# Altium schematic symbol library DC_AC_Inverter.SchLib: 39 symbols (part 2 of 4)
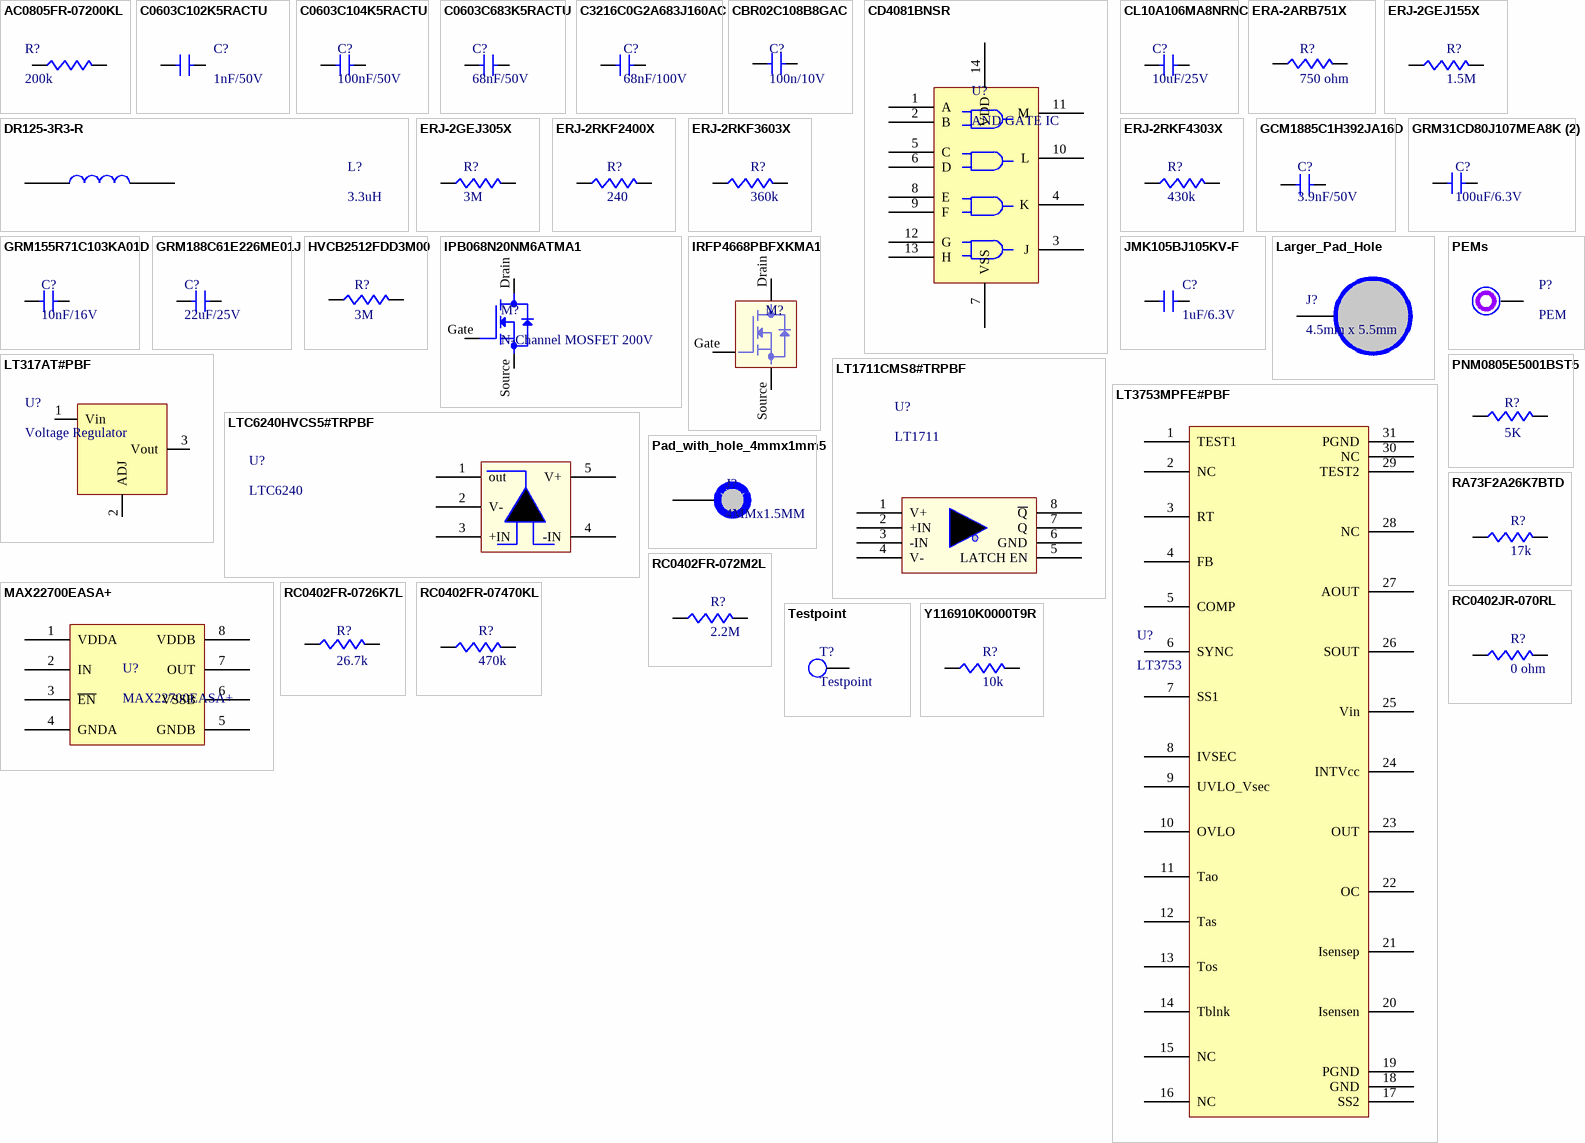
[diagram p1: symbols AC0805FR-07200KL to Y116910K0000T9R]

## CL10A106MA8NRNC
designator C?, comment 10uF/25V
25V 10uF X5R ±20% 0603 Multilayer Ceramic Capacitors MLCC - SMD/SMT ROHS; Manufacturer: Samsung Electro-Mechanics; Manufacturer Part Number: CL10A106MA8NRNC; Value: 10µF; Supplier: DigiKey; Supplier Part Number: 1276-1869-1-ND; RoHS: Compliant; Category: Ceramic Capacitors; Stock: 819895; Pricing: 1=0.09, 10=0.045 (USD); Case/Package: 0603; Case Code (Imperial): 0603; Case Code (Metric): 1608; China RoHS: Compliant; Contact Plating: Tin; Country of Origin: Mainland China, Philippines, South Korea; Dielectric: X5R; Dielectric Material: Ceramic; Export Control Classification Number (ECCN) Code: EAR99; Height: 800µm; Harmonized Tariff Schedule (HTS) Code: 8532.24.00.20; Introduction Date: 2013-01-16; Lead Free: Lead Free; Length: 1.6mm; Lifecycle Status: Production; Material: Ceramic; Max Operating Temperature: 85°C; Min Operating Temperature: -55°C; Mounting Technology: Surface Mount; Number of Terminals: 2; Packaging: Tape & Reel (TR); REACH SVHC: Yes; Schedule B: 8532240020, 8532240020|8532240020|8532240020|8532240020|8532240020|8532240020|8532240020|8532240020|8532240020|8532240020|8532240020, 8532240020|8532240020|8532240020|8532240020|8532240020|8532240020|8532240020|8532240020|8532240020|8532240020|8532240020|8532240020, 8532240020|8532240020|8532240020|8532240020|8532240020|8532240020|8532240020|8532240020|8532240020|8532240020|8532240020|8532240020|8532240020; Termination: Wraparound; Thickness: 889µm; Tolerance: 20%; Voltage Rating: 25V; Voltage Rating (DC): 25V; Width: 800µm; ComponentLink1URL: https://datasheet.octopart.com:443/CL10A106MA8NRNC-Samsung-Electro-Mechanics-datasheet-182019172.pdf?src-supplier=IHS; ComponentLink1Description: https://datasheet.octopart.com:443/CL10A106MA8NRNC-Samsung-Electro-Mechanics-datasheet-182019172.pdf?src-supplier=IHS; ComponentLink2URL: https://datasheet.octopart.com:443/CL10A106MA8NRNC-Samsung-Electro-Mechanics-datasheet-137745063.pdf?src-supplier=Future+Electronics; ComponentLink2Description: https://datasheet.octopart.com:443/CL10A106MA8NRNC-Samsung-Electro-Mechanics-datasheet-137745063.pdf?src-supplier=Future+Electronics; ComponentLink3URL: https://datasheet.octopart.com:443/CL10A106MA8NRNC-Samsung-Electro-Mechanics-datasheet-136031756.pdf?src-supplier=Future+Electronics; ComponentLink3Description: https://datasheet.octopart.com:443/CL10A106MA8NRNC-Samsung-Electro-Mechanics-datasheet-136031756.pdf?src-supplier=Future+Electronics; ComponentLink4URL: https://datasheet.octopart.com:443/CL10A106MA8NRNC-Samsung-Electro-Mechanics-datasheet-110226291.pdf?src-supplier=Future+Electronics; ComponentLink4Description: https://datasheet.octopart.com:443/CL10A106MA8NRNC-Samsung-Electro-Mechanics-datasheet-110226291.pdf?src-supplier=Future+Electronics; ComponentLink5URL: https://datasheet.octopart.com:443/CL10A106MA8NRNC-Samsung-Electro-Mechanics-datasheet-87580073.pdf?src-supplier=Future+Electronics; ComponentLink5Description: https://datasheet.octopart.com:443/CL10A106MA8NRNC-Samsung-Electro-Mechanics-datasheet-87580073.pdf?src-supplier=Future+Electronics; ComponentLink6URL: https://datasheet.octopart.com:443/CL10A106MA8NRNC-Samsung-Electro-Mechanics-datasheet-68300265.pdf?src-supplier=Future+Electronics; ComponentLink6Description: https://datasheet.octopart.com:443/CL10A106MA8NRNC-Samsung-Electro-Mechanics-datasheet-68300265.pdf?src-supplier=Future+Electronics; ComponentLink7URL: https://datasheet.octopart.com:443/CL10A106MA8NRNC-Samsung-datasheet-66660282.pdf?src-supplier=Future+Electronics; ComponentLink7Description: https://datasheet.octopart.com:443/CL10A106MA8NRNC-Samsung-datasheet-66660282.pdf?src-supplier=Future+Electronics; ComponentLink8URL: https://datasheet.octopart.com:443/CL10A106MA8NRNC-Samsung-datasheet-48647236.pdf?src-supplier=Future+Electronics; ComponentLink8Description: https://datasheet.octopart.com:443/CL10A106MA8NRNC-Samsung-datasheet-48647236.pdf?src-supplier=Future+Electronics; ComponentLink9URL: https://datasheet.octopart.com:443/CL10A106MA8NRNC-Samsung-datasheet-39118733.pdf?src-supplier=Future+Electronics; ComponentLink9Description: https://datasheet.octopart.com:443/CL10A106MA8NRNC-Samsung-datasheet-39118733.pdf?src-supplier=Future+Electronics; ComponentLink10URL: https://datasheet.octopart.com:443/CL10A106MA8NRNC-Samsung-Electro-Mechanics-datasheet-149156483.pdf?src-supplier=Future+Electronics; ComponentLink10Description: https://datasheet.octopart.com:443/CL10A106MA8NRNC-Samsung-Electro-Mechanics-datasheet-149156483.pdf?src-supplier=Future+Electronics
footprint Capacitor
pins: 1, 2

## DR125-3R3-R
designator L?, comment 3.3uH
Inductor Power Shielded Drum Core 3.3uH 20% 100KHz Ferrite 9.26A 6.3mOhm DCR T/R; Manufacturer: Eaton; Manufacturer Part Number: DR125-3R3-R; DC Resistance (DCR): 6.3mΩ; Value: 3.3µH; Number of Circuits: 1; Saturation Current: 12.7A; Shielding: Yes; Supplier: DigiKey; Supplier Part Number: 513-1529-1-ND; RoHS: Compliant; Category: Fixed Inductors; Stock: 13912; Pricing: 1=0.94, 10=0.772, 100=0.6352 (USD); Case/Package: 0125; Composition: Wirewound; Core Material: Ferrite; Current Rating: 9.26A; Depth: 12.5mm; Height: 6mm; Height - Seated (Max): 5.9944mm; Inductance Tolerance: 20%; Lead Free: Lead Free; Length: 12.5mm; Lifecycle Status: Production; Max Current Rating: 9.26A; Max DC Current: 9.26A; Max Operating Temperature: 125°C; Military Standard: Not; Min Operating Temperature: -40°C; Mounting Technology: Surface Mount; Pins: 2; Number of Terminals: 2; Radiation Hardening: No; REACH SVHC: No; RMS Current (Irms): 9.26A; Schedule B: 8504500000, 8504500000|8504500000|8504500000|8504500000|8504500000|8504500000|8504500000|8504500000|8504500000|8504500000|8504500000|8504500000|8504500000|8504500000|8504500000|8504500000|8504500000|8504500000|8504500000|8504500000|8504500000|8504500000|8504500000|85; Self Resonant Frequency: 100kHz; Termination: SMD/SMT; Test Frequency: 100kHz; Tolerance: 20%; Weight: 4.082331g; Width: 12.5mm; ComponentLink1URL: https://datasheet.octopart.com:443/DR125-3R3-R-Eaton-datasheet-129252529.pdf?src-supplier=Electro+Sonic; ComponentLink1Description: https://datasheet.octopart.com:443/DR125-3R3-R-Eaton-datasheet-129252529.pdf?src-supplier=Electro+Sonic; ComponentLink2URL: https://datasheet.octopart.com:443/DR125-3R3-R-Eaton-datasheet-41175520.pdf?src-supplier=Master+Electronics; ComponentLink2Description: https://datasheet.octopart.com:443/DR125-3R3-R-Eaton-datasheet-41175520.pdf?src-supplier=Master+Electronics; ComponentLink3URL: https://datasheet.octopart.com:443/DR125-3R3-R-Coiltronics-datasheet-8612520.pdf?src-supplier=IHS; ComponentLink3Description: https://datasheet.octopart.com:443/DR125-3R3-R-Coiltronics-datasheet-8612520.pdf?src-supplier=IHS; ComponentLink4URL: https://datasheet.octopart.com:443/DR125-3R3-R-Eaton-datasheet-552538.pdf?src-supplier=Newark; ComponentLink4Description: https://datasheet.octopart.com:443/DR125-3R3-R-Eaton-datasheet-552538.pdf?src-supplier=Newark; ComponentLink5URL: https://datasheet.octopart.com:443/DR125-3R3-R-Coiltronics-datasheet-3395.pdf?src-supplier=Factory+Futures; ComponentLink5Description: https://datasheet.octopart.com:443/DR125-3R3-R-Coiltronics-datasheet-3395.pdf?src-supplier=Factory+Futures; ComponentLink6URL: https://datasheet.octopart.com:443/DR125-3R3-R-Eaton-datasheet-37490916.pdf?src-supplier=RS+(Formerly+Allied+Electronics); ComponentLink6Description: https://datasheet.octopart.com:443/DR125-3R3-R-Eaton-datasheet-37490916.pdf?src-supplier=RS+(Formerly+Allied+Electronics); ComponentLink7URL: https://datasheet.octopart.com:443/DR125-3R3-R-Coiltronics-datasheet-119352.pdf?src-supplier=DigiKey; ComponentLink7Description: https://datasheet.octopart.com:443/DR125-3R3-R-Coiltronics-datasheet-119352.pdf?src-supplier=DigiKey
footprint DR125
pins: 8, 9

## ERA-2ARB751X
designator R?, comment 750 ohm
Res Thin Film 0402 750 Ohm 0.1% 0.063W(1/16W) ±10ppm/C Pad SMD Automotive T/R; Manufacturer: Panasonic; Manufacturer Part Number: ERA-2ARB751X; Manufacturer Lifecycle Status: ACTIVE; Part Series: Thin Film Chip Resistors, High Reliability Type; Max Power Dissipation: 63mW; Value: 750Ω; Temperature Coefficient: 10ppm/°C; Voltage Rating: 50V; Supplier: DigiKey; Supplier Part Number: 10-ERA-2ARB751XDKR-ND; RoHS: Compliant; Category: Chip SMD Resistors; Stock: 11665; Pricing: 1=0.46, 10=0.386, 25=0.358, 50=0.3382, 100=0.3198, 250=0.29784, 500=0.28296, 1000=0.26954, 5000=0.25765 (USD); Case/Package: 0402; Case Code (Imperial): 0402; Case Code (Metric): 1005; Composition: Thin Film; Features: Automotive AEC-Q200; Height: 350µm; Lead Free: Lead Free; Length: 990.6µm; Lifecycle Status: Production; Max Operating Temperature: 155°C; Min Operating Temperature: -55°C; Mounting Technology: Surface Mount; Number of Terminals: 2; Number of Terminations: 2; Packaging: Cut Tape; Power Dissipation: 63mW; Power Rating: 63mW; REACH SVHC: Yes; Tolerance: 0.1%; Voltage Rating (DC): 50V; Width: 500µm; Working Voltage: 50V; ComponentLink1URL: https://datasheet.octopart.com:443/ERA-2ARB751X-Panasonic-datasheet-62287448.pdf?src-supplier=Panasonic; ComponentLink1Description: https://datasheet.octopart.com:443/ERA-2ARB751X-Panasonic-datasheet-62287448.pdf?src-supplier=Panasonic; ComponentLink2URL: https://datasheet.octopart.com:443/ERA-2ARB751X-Panasonic-datasheet-46744048.pdf?src-supplier=Newark; ComponentLink2Description: https://datasheet.octopart.com:443/ERA-2ARB751X-Panasonic-datasheet-46744048.pdf?src-supplier=Newark; ComponentLink3URL: https://datasheet.octopart.com:443/ERA2ARB751X-Panasonic-datasheet-136531316.pdf?src-supplier=element14+APAC; ComponentLink3Description: https://datasheet.octopart.com:443/ERA2ARB751X-Panasonic-datasheet-136531316.pdf?src-supplier=element14+APAC; ComponentLink4URL: https://sigma.octopart.com:443/150570796/technical_drawing/Panasonic-ERA2ARB751X.pdf?src-supplier=Panasonic+SCT; ComponentLink4Description: https://sigma.octopart.com:443/150570796/technical_drawing/Panasonic-ERA2ARB751X.pdf?src-supplier=Panasonic+SCT; ComponentLink5URL: https://datasheet.octopart.com/ERA-2ARB751X-Panasonic-datasheet-78375410.pdf; ComponentLink5Description: https://datasheet.octopart.com/ERA-2ARB751X-Panasonic-datasheet-78375410.pdf
footprint Resistor-26.7
pins: 1, 2

## ERJ-2GEJ155X
designator R?, comment 1.5M
Res Thick Film 0402 1.5M Ohm 5% 0.1W(1/10W) -400ppm/C to 150ppm/C Molded SMD Punched T/R; Manufacturer: Panasonic; Manufacturer Part Number: ERJ-2GEJ155X; Manufacturer Lifecycle Status: ACTIVE; Part Series: Thick Film Chip Resistors; Max Power Dissipation: 100mW; Value: 1.5MΩ; Temperature Coefficient: 150ppm/°C; Voltage Rating: 50V; Supplier: DigiKey; Supplier Part Number: P1.5MJCT-ND; RoHS: Compliant; Category: Chip SMD Resistors; Stock: 170374; Pricing: 1=0.1, 10=0.026, 25=0.0192, 50=0.0154, 100=0.0125, 250=0.00968, 500=0.00808, 1000=0.00685, 5000=0.0049, 10000=0.00331, 20000=0.00326, 30000=0.00324, 50000=0.00322, 70000=0.0032, 100000=0.00319, 120000=0.00318, 240000=0.00299, 250000=0.00298 (USD); Case/Package: 0402; Case Code (Imperial): 0402; Composition: Thick Film; Contact Plating: Tin; Country of Origin: Japan, Mainland China; Depth: 500µm; Export Control Classification Number (ECCN) Code: EAR99; Features: Automotive AEC-Q200; Height: 350µm; Harmonized Tariff Schedule (HTS) Code: 8533.21.00.30; Introduction Date: 1993-02-01; Lead Free: Lead Free; Length: 1mm; Lifecycle Status: Production; Max Operating Temperature: 155°C; Military Standard: Not; Min Operating Temperature: -55°C; Mounting Technology: Surface Mount; Number of Terminals: 2; Number of Terminations: 2; Packaging: Cut Tape; Power Dissipation: 100mW; Power Rating: 100mW; Radiation Hardening: No; REACH SVHC: Yes; Schedule B: 8533210045, 8533210045|8533210045|8533210045|8533210045|8533210045; Termination: SMD/SMT; Tolerance: 5%; Voltage Rating (DC): 50V; Width: 500µm; Working Voltage: 50V; ComponentLink1URL: https://datasheet.octopart.com:443/ERJ-2GEJ155X-Panasonic-datasheet-61114972.pdf?src-supplier=Panasonic; ComponentLink1Description: https://datasheet.octopart.com:443/ERJ-2GEJ155X-Panasonic-datasheet-61114972.pdf?src-supplier=Panasonic; ComponentLink2URL: https://datasheet.octopart.com:443/ERJ-2GEJ155X-Panasonic-datasheet-136608608.pdf?src-supplier=Newark; ComponentLink2Description: https://datasheet.octopart.com:443/ERJ-2GEJ155X-Panasonic-datasheet-136608608.pdf?src-supplier=Newark; ComponentLink3URL: https://datasheet.octopart.com:443/ERJ-2GEJ155X-Panasonic-datasheet-33006990.pdf?src-supplier=Newark; ComponentLink3Description: https://datasheet.octopart.com:443/ERJ-2GEJ155X-Panasonic-datasheet-33006990.pdf?src-supplier=Newark; ComponentLink4URL: https://datasheet.octopart.com:443/ERJ-2GEJ155X-Panasonic---ECG-datasheet-21211697.pdf?src-supplier=Newark; ComponentLink4Description: https://datasheet.octopart.com:443/ERJ-2GEJ155X-Panasonic---ECG-datasheet-21211697.pdf?src-supplier=Newark; ComponentLink5URL: https://datasheet.octopart.com:443/ERJ-2GEJ155X-Panasonic-datasheet-5314550.pdf?src-supplier=RS+(Formerly+Allied+Electronics); ComponentLink5Description: https://datasheet.octopart.com:443/ERJ-2GEJ155X-Panasonic-datasheet-5314550.pdf?src-supplier=RS+(Formerly+Allied+Electronics); ComponentLink6URL: https://datasheet.octopart.com:443/ERJ-2GEJ155X-Panasonic-datasheet-147443676.pdf?src-supplier=Master+Electronics; ComponentLink6Description: https://datasheet.octopart.com:443/ERJ-2GEJ155X-Panasonic-datasheet-147443676.pdf?src-supplier=Master+Electronics; ComponentLink7URL: https://datasheet.octopart.com:443/ERJ-2GEJ155X-Panasonic-datasheet-13266872.pdf?src-supplier=Farnell; ComponentLink7Description: https://datasheet.octopart.com:443/ERJ-2GEJ155X-Panasonic-datasheet-13266872.pdf?src-supplier=Farnell; ComponentLink8URL: https://datasheet.octopart.com:443/ERJ-2GEJ155X-Panasonic---ECG-datasheet-15994758.pdf?src-supplier=Farnell; ComponentLink8Description: https://datasheet.octopart.com:443/ERJ-2GEJ155X-Panasonic---ECG-datasheet-15994758.pdf?src-supplier=Farnell; ComponentLink9URL: https://datasheet.octopart.com:443/ERJ2GEJ155X-Panasonic-datasheet-165581512.pdf?src-supplier=TME; ComponentLink9Description: https://datasheet.octopart.com:443/ERJ2GEJ155X-Panasonic-datasheet-165581512.pdf?src-supplier=TME; ComponentLink10URL: https://datasheet.octopart.com/ERJ-2GEJ155X-Panasonic-datasheet-78375410.pdf; ComponentLink10Description: https://datasheet.octopart.com/ERJ-2GEJ155X-Panasonic-datasheet-78375410.pdf; ComponentLink11URL: https://datasheet.octopart.com/Thick-Film-Chip-Resistors-Panasonic-datasheet-family-105.pdf; ComponentLink11Description: https://datasheet.octopart.com/Thick-Film-Chip-Resistors-Panasonic-datasheet-family-105.pdf; ComponentLink12URL: https://datasheet.octopart.com:443/ERJ-2GEJ155X-Panasonic-datasheet-118655.pdf?src-supplier=DigiKey; ComponentLink12Description: https://datasheet.octopart.com:443/ERJ-2GEJ155X-Panasonic-datasheet-118655.pdf?src-supplier=DigiKey; ComponentLink13URL: https://datasheet.octopart.com:443/ERJ2GEJ155X-Panasonic-datasheet-27908757.pdf?src-supplier=Electro+Sonic; ComponentLink13Description: https://datasheet.octopart.com:443/ERJ2GEJ155X-Panasonic-datasheet-27908757.pdf?src-supplier=Electro+Sonic; ComponentLink14URL: https://datasheet.octopart.com:443/ERJ-2GEJ155X-Panasonic-datasheet-37173568.pdf?src-supplier=Electro+Sonic; ComponentLink14Description: https://datasheet.octopart.com:443/ERJ-2GEJ155X-Panasonic-datasheet-37173568.pdf?src-supplier=Electro+Sonic
footprint Resistor-26.7
pins: 1, 2

## ERJ-2GEJ305X
designator R?, comment 3M
Res Thick Film 0402 3M Ohm 5% 0.1W(1/10W) -400ppm/C to 150ppm/C Molded SMD Punched T/R; Manufacturer: Panasonic; Manufacturer Part Number: ERJ-2GEJ305X; Manufacturer Lifecycle Status: ACTIVE; Part Series: Thick Film Chip Resistors; Max Power Dissipation: 100mW; Value: 3MΩ; Temperature Coefficient: 150ppm/°C; Voltage Rating: 50V; Supplier: DigiKey; Supplier Part Number: P3.0MJCT-ND; RoHS: Compliant; Category: Chip SMD Resistors; Stock: 44613; Pricing: 1=0.1, 10=0.026, 25=0.0192, 50=0.0154, 100=0.0125, 250=0.00968, 500=0.00808, 1000=0.00685, 5000=0.00637 (USD); Case/Package: 0402; Case Code (Imperial): 0402; Composition: Thick Film; Contact Plating: Tin; Depth: 500µm; Height: 350µm; Lead Free: Contains Lead; Length: 1mm; Lifecycle Status: Production; Max Operating Temperature: 155°C; Military Standard: Not; Min Operating Temperature: -55°C; Mounting Technology: Surface Mount; Number of Terminals: 2; Number of Terminations: 2; Packaging: Cut Tape; Power Dissipation: 100mW; Power Rating: 100mW; Radiation Hardening: No; REACH SVHC: Yes; Schedule B: 8533210045, 8533210045|8533210045|8533210045|8533210045|8533210045; Termination: SMD/SMT; Tolerance: 5%; Voltage Rating (DC): 50V; Width: 500µm; Working Voltage: 50V; ComponentLink1URL: https://datasheet.octopart.com:443/ERJ-2GEJ305X-Panasonic-datasheet-61114972.pdf?src-supplier=Panasonic; ComponentLink1Description: https://datasheet.octopart.com:443/ERJ-2GEJ305X-Panasonic-datasheet-61114972.pdf?src-supplier=Panasonic; ComponentLink2URL: https://datasheet.octopart.com:443/ERJ-2GEJ305X-Panasonic-datasheet-13266872.pdf?src-supplier=Newark; ComponentLink2Description: https://datasheet.octopart.com:443/ERJ-2GEJ305X-Panasonic-datasheet-13266872.pdf?src-supplier=Newark; ComponentLink3URL: https://datasheet.octopart.com:443/ERJ-2GEJ305X-Panasonic-datasheet-147443676.pdf?src-supplier=JRH+Electronics; ComponentLink3Description: https://datasheet.octopart.com:443/ERJ-2GEJ305X-Panasonic-datasheet-147443676.pdf?src-supplier=JRH+Electronics; ComponentLink4URL: https://datasheet.octopart.com:443/ERJ-2GEJ305X-Panasonic-datasheet-136608608.pdf?src-supplier=Farnell; ComponentLink4Description: https://datasheet.octopart.com:443/ERJ-2GEJ305X-Panasonic-datasheet-136608608.pdf?src-supplier=Farnell; ComponentLink5URL: https://datasheet.octopart.com:443/ERJ-2GEJ305X-Panasonic-datasheet-5314550.pdf?src-supplier=Farnell; ComponentLink5Description: https://datasheet.octopart.com:443/ERJ-2GEJ305X-Panasonic-datasheet-5314550.pdf?src-supplier=Farnell; ComponentLink6URL: https://datasheet.octopart.com:443/ERJ-2GEJ305X-Panasonic---ECG-datasheet-15994758.pdf?src-supplier=Farnell; ComponentLink6Description: https://datasheet.octopart.com:443/ERJ-2GEJ305X-Panasonic---ECG-datasheet-15994758.pdf?src-supplier=Farnell; ComponentLink7URL: https://datasheet.octopart.com:443/ERJ2GEJ305X-Panasonic-datasheet-165581512.pdf?src-supplier=TME; ComponentLink7Description: https://datasheet.octopart.com:443/ERJ2GEJ305X-Panasonic-datasheet-165581512.pdf?src-supplier=TME; ComponentLink8URL: https://datasheet.octopart.com/ERJ-2GEJ305X-Panasonic-datasheet-78375410.pdf; ComponentLink8Description: https://datasheet.octopart.com/ERJ-2GEJ305X-Panasonic-datasheet-78375410.pdf; ComponentLink9URL: https://datasheet.octopart.com/Thick-Film-Chip-Resistors-Panasonic-datasheet-family-105.pdf; ComponentLink9Description: https://datasheet.octopart.com/Thick-Film-Chip-Resistors-Panasonic-datasheet-family-105.pdf; ComponentLink10URL: https://datasheet.octopart.com:443/ERJ-2GEJ305X-Panasonic-datasheet-118655.pdf?src-supplier=DigiKey; ComponentLink10Description: https://datasheet.octopart.com:443/ERJ-2GEJ305X-Panasonic-datasheet-118655.pdf?src-supplier=DigiKey; ComponentLink11URL: https://datasheet.octopart.com:443/ERJ2GEJ305X-Panasonic-datasheet-27908757.pdf?src-supplier=Electro+Sonic; ComponentLink11Description: https://datasheet.octopart.com:443/ERJ2GEJ305X-Panasonic-datasheet-27908757.pdf?src-supplier=Electro+Sonic; ComponentLink12URL: https://datasheet.octopart.com:443/ERJ-2GEJ305X-Panasonic-datasheet-37173568.pdf?src-supplier=Electro+Sonic; ComponentLink12Description: https://datasheet.octopart.com:443/ERJ-2GEJ305X-Panasonic-datasheet-37173568.pdf?src-supplier=Electro+Sonic
footprint Resistor-26.7
pins: 1, 2

## ERJ-2RKF2400X
designator R?, comment 240
Res Thick Film 0402 240 Ohm 1% 0.1W ±100ppm/°C Molded SMD Punched Carrier T/R; Manufacturer: Panasonic; Manufacturer Part Number: ERJ-2RKF2400X; Manufacturer Lifecycle Status: ACTIVE; Part Series: Precision Thick Film Chip Resistors; Max Power Dissipation: 100mW; Power Rating: 63mW; Value: 240Ω; Voltage Rating: 50V; Supplier: DigiKey; Supplier Part Number: P240LCT-ND; RoHS: Compliant; Category: Chip SMD Resistors; Stock: 1919536; Pricing: 1=0.1, 10=0.028, 25=0.0208, 50=0.0168, 100=0.0138, 250=0.01072, 500=0.009, 1000=0.00766, 5000=0.00554 (USD); Case/Package: 0402; Case Code (Imperial): 0402; Case Code (Metric): 1005; China RoHS: Non-Compliant; Composition: Thick Film; Contact Plating: Tin; Depth: 500µm; Features: Automotive AEC-Q200; Height: 350µm; Lead Free: Lead Free; Length: 1mm; Lifecycle Status: Production; Max Operating Temperature: 155°C; Military Standard: Not; Min Operating Temperature: -55°C; Mounting Technology: Surface Mount; Pins: 2; Number of Terminals: 2; Number of Terminations: 2; Packaging: Tape and Reel; Power Dissipation: 100mW; Radiation Hardening: No; REACH SVHC: Yes; Schedule B: 8533210045, 8533210045|8533210045|8533210045|8533210045|8533210045|8533210045|8533210045|8533210045|8533210045|8533210045|8533210045|8533210045|8533210045|8533210045|8533210045|8533210045|8533210045|8533210045|8533210045|8533210045|8533210045|8533210045|8533210045|85; Temperature Coefficient: 100ppm/°C; Termination: SMD/SMT; Tolerance: 1%; Voltage Rating (DC): 50V; Width: 500µm; Working Voltage: 50V; ComponentLink1URL: https://datasheet.octopart.com:443/ERJ-2RKF2400X-Panasonic-datasheet-82288794.pdf?src-supplier=Panasonic; ComponentLink1Description: https://datasheet.octopart.com:443/ERJ-2RKF2400X-Panasonic-datasheet-82288794.pdf?src-supplier=Panasonic; ComponentLink2URL: https://datasheet.octopart.com:443/ERJ-2RKF2400X-Panasonic-datasheet-48891056.pdf?src-supplier=Upverter; ComponentLink2Description: https://datasheet.octopart.com:443/ERJ-2RKF2400X-Panasonic-datasheet-48891056.pdf?src-supplier=Upverter; ComponentLink3URL: https://datasheet.octopart.com:443/ERJ-2RKF2400X-Panasonic-datasheet-13266541.pdf?src-supplier=Farnell; ComponentLink3Description: https://datasheet.octopart.com:443/ERJ-2RKF2400X-Panasonic-datasheet-13266541.pdf?src-supplier=Farnell; ComponentLink4URL: https://datasheet.octopart.com:443/ERJ-2RKF2400X-Panasonic-datasheet-10025800.pdf?src-supplier=Farnell; ComponentLink4Description: https://datasheet.octopart.com:443/ERJ-2RKF2400X-Panasonic-datasheet-10025800.pdf?src-supplier=Farnell; ComponentLink5URL: https://datasheet.octopart.com:443/ERJ-2RKF2400X-Panasonic-datasheet-8853621.pdf?src-supplier=Farnell; ComponentLink5Description: https://datasheet.octopart.com:443/ERJ-2RKF2400X-Panasonic-datasheet-8853621.pdf?src-supplier=Farnell; ComponentLink6URL: https://datasheet.octopart.com:443/ERJ-2RKF2400X-Panasonic-datasheet-136608610.pdf?src-supplier=Farnell; ComponentLink6Description: https://datasheet.octopart.com:443/ERJ-2RKF2400X-Panasonic-datasheet-136608610.pdf?src-supplier=Farnell; ComponentLink7URL: https://datasheet.octopart.com:443/ERJ2RKF2400X-Panasonic---ECG-datasheet-15994758.pdf?src-supplier=Farnell; ComponentLink7Description: https://datasheet.octopart.com:443/ERJ2RKF2400X-Panasonic---ECG-datasheet-15994758.pdf?src-supplier=Farnell; ComponentLink8URL: https://datasheet.octopart.com:443/ERJ-2RKF2400X-Panasonic-datasheet-5313456.pdf?src-supplier=Newark; ComponentLink8Description: https://datasheet.octopart.com:443/ERJ-2RKF2400X-Panasonic-datasheet-5313456.pdf?src-supplier=Newark; ComponentLink9URL: https://datasheet.octopart.com:443/ERJ-2RKF2400X-Panasonic-datasheet-154766169.pdf?src-supplier=Master+Electronics; ComponentLink9Description: https://datasheet.octopart.com:443/ERJ-2RKF2400X-Panasonic-datasheet-154766169.pdf?src-supplier=Master+Electronics; ComponentLink10URL: https://datasheet.octopart.com:443/ERJ2RKF2400X-Panasonic-datasheet-188592431.pdf?src-supplier=TME; ComponentLink10Description: https://datasheet.octopart.com:443/ERJ2RKF2400X-Panasonic-datasheet-188592431.pdf?src-supplier=TME; ComponentLink11URL: https://datasheet.octopart.com:443/ERJ2RKF2400X-Panasonic-datasheet-164353789.pdf?src-supplier=TME; ComponentLink11Description: https://datasheet.octopart.com:443/ERJ2RKF2400X-Panasonic-datasheet-164353789.pdf?src-supplier=TME; ComponentLink12URL: https://datasheet.octopart.com/ERJ-2RKF2400X-Panasonic-datasheet-78375410.pdf; ComponentLink12Description: https://datasheet.octopart.com/ERJ-2RKF2400X-Panasonic-datasheet-78375410.pdf; ComponentLink13URL: https://datasheet.octopart.com:443/ERJ-2RKF2400X-Panasonic-datasheet-41391857.pdf?src-supplier=Electro+Sonic; ComponentLink13Description: https://datasheet.octopart.com:443/ERJ-2RKF2400X-Panasonic-datasheet-41391857.pdf?src-supplier=Electro+Sonic
footprint Resistor-26.7
pins: 1, 2

## ERJ-2RKF3603X
designator R?, comment 360k
Res Thick Film 0402 360K Ohm 1% 0.1W ±100ppm/°C Molded SMD Punched Carrier T/R; Manufacturer: Panasonic; Manufacturer Part Number: ERJ-2RKF3603X; Manufacturer Lifecycle Status: ACTIVE; Part Series: Precision Thick Film Chip Resistors; Max Power Dissipation: 100mW; Value: 360kΩ; Voltage Rating: 50V; Supplier: DigiKey; Supplier Part Number: P360KLCT-ND; RoHS: Compliant; Category: Chip SMD Resistors; Stock: 213186; Pricing: 1=0.1, 10=0.028, 25=0.0208, 50=0.0168, 100=0.0138, 250=0.01072, 500=0.009, 1000=0.00766, 5000=0.00554 (USD); Case/Package: 0402; Case Code (Imperial): 0402; Case Code (Metric): 1005; China RoHS: Non-Compliant; Composition: Thick Film; Contact Plating: Tin; Country of Origin: Japan, Mainland China; Depth: 500µm; Export Control Classification Number (ECCN) Code: EAR99; Features: Automotive AEC-Q200; Height: 350µm; Harmonized Tariff Schedule (HTS) Code: 8533.21.00.30; Introduction Date: 2002-02-12; Lead Free: Lead Free; Length: 1mm; Lifecycle Status: Production; Max Operating Temperature: 155°C; Military Standard: Not; Min Operating Temperature: -55°C; Mounting Technology: Surface Mount; Number of Terminals: 2; Number of Terminations: 2; Power Dissipation: 100mW; Power Rating: 100mW; REACH SVHC: Yes; Schedule B: 8533210045, 8533210045|8533210045|8533210045|8533210045|8533210045|8533210045|8533210045|8533210045|8533210045|8533210045|8533210045|8533210045|8533210045|8533210045|8533210045|8533210045|8533210045|8533210045|8533210045|8533210045|8533210045|8533210045|8533210045|85; Temperature Coefficient: 100ppm/°C; Termination: SMD/SMT; Tolerance: 1%; Voltage Rating (DC): 50V; Width: 500µm; Working Voltage: 50V; ComponentLink1URL: https://datasheet.octopart.com:443/ERJ-2RKF3603X-Panasonic-datasheet-82288794.pdf?src-supplier=Panasonic; ComponentLink1Description: https://datasheet.octopart.com:443/ERJ-2RKF3603X-Panasonic-datasheet-82288794.pdf?src-supplier=Panasonic; ComponentLink2URL: https://datasheet.octopart.com:443/ERJ-2RKF3603X-Panasonic-datasheet-13266541.pdf?src-supplier=Farnell; ComponentLink2Description: https://datasheet.octopart.com:443/ERJ-2RKF3603X-Panasonic-datasheet-13266541.pdf?src-supplier=Farnell; ComponentLink3URL: https://datasheet.octopart.com:443/ERJ-2RKF3603X-Panasonic-datasheet-136608610.pdf?src-supplier=Farnell; ComponentLink3Description: https://datasheet.octopart.com:443/ERJ-2RKF3603X-Panasonic-datasheet-136608610.pdf?src-supplier=Farnell; ComponentLink4URL: https://datasheet.octopart.com:443/ERJ2RKF3603X-Panasonic-datasheet-168681906.pdf?src-supplier=Farnell; ComponentLink4Description: https://datasheet.octopart.com:443/ERJ2RKF3603X-Panasonic-datasheet-168681906.pdf?src-supplier=Farnell; ComponentLink5URL: https://datasheet.octopart.com:443/ERJ-2RKF3603X-Panasonic-datasheet-10025800.pdf?src-supplier=Farnell; ComponentLink5Description: https://datasheet.octopart.com:443/ERJ-2RKF3603X-Panasonic-datasheet-10025800.pdf?src-supplier=Farnell; ComponentLink6URL: https://datasheet.octopart.com:443/ERJ-2RKF3603X-Panasonic-datasheet-8853621.pdf?src-supplier=Farnell; ComponentLink6Description: https://datasheet.octopart.com:443/ERJ-2RKF3603X-Panasonic-datasheet-8853621.pdf?src-supplier=Farnell; ComponentLink7URL: https://datasheet.octopart.com:443/ERJ-2RKF3603X-Panasonic-datasheet-5313456.pdf?src-supplier=Farnell; ComponentLink7Description: https://datasheet.octopart.com:443/ERJ-2RKF3603X-Panasonic-datasheet-5313456.pdf?src-supplier=Farnell; ComponentLink8URL: https://datasheet.octopart.com:443/ERJ-2RKF3603X-Panasonic---ECG-datasheet-15994758.pdf?src-supplier=Farnell; ComponentLink8Description: https://datasheet.octopart.com:443/ERJ-2RKF3603X-Panasonic---ECG-datasheet-15994758.pdf?src-supplier=Farnell; ComponentLink9URL: https://datasheet.octopart.com:443/ERJ-2RKF3603X-Panasonic-datasheet-48891056.pdf?src-supplier=Newark; ComponentLink9Description: https://datasheet.octopart.com:443/ERJ-2RKF3603X-Panasonic-datasheet-48891056.pdf?src-supplier=Newark; ComponentLink10URL: https://datasheet.octopart.com:443/ERJ-2RKF3603X-Panasonic-datasheet-33006990.pdf?src-supplier=Newark; ComponentLink10Description: https://datasheet.octopart.com:443/ERJ-2RKF3603X-Panasonic-datasheet-33006990.pdf?src-supplier=Newark; ComponentLink11URL: https://datasheet.octopart.com:443/ERJ-2RKF3603X-Panasonic---ECG-datasheet-21211697.pdf?src-supplier=Newark; ComponentLink11Description: https://datasheet.octopart.com:443/ERJ-2RKF3603X-Panasonic---ECG-datasheet-21211697.pdf?src-supplier=Newark; ComponentLink12URL: https://datasheet.octopart.com:443/ERJ2RKF3603X-Panasonic-datasheet-164353789.pdf?src-supplier=HQonline; ComponentLink12Description: https://datasheet.octopart.com:443/ERJ2RKF3603X-Panasonic-datasheet-164353789.pdf?src-supplier=HQonline; ComponentLink13URL: https://datasheet.octopart.com:443/ERJ-2RKF3603X-Panasonic-datasheet-154766169.pdf?src-supplier=Master+Electronics; ComponentLink13Description: https://datasheet.octopart.com:443/ERJ-2RKF3603X-Panasonic-datasheet-154766169.pdf?src-supplier=Master+Electronics; ComponentLink14URL: https://datasheet.octopart.com:443/ERJ2RKF3603X-Panasonic-datasheet-188592431.pdf?src-supplier=TME; ComponentLink14Description: https://datasheet.octopart.com:443/ERJ2RKF3603X-Panasonic-datasheet-188592431.pdf?src-supplier=TME; ComponentLink15URL: https://datasheet.octopart.com/ERJ-2RKF3603X-Panasonic-datasheet-78375410.pdf; ComponentLink15Description: https://datasheet.octopart.com/ERJ-2RKF3603X-Panasonic-datasheet-78375410.pdf; ComponentLink16URL: https://datasheet.octopart.com:443/ERJ-2RKF3603X-Panasonic-datasheet-41391857.pdf?src-supplier=Electro+Sonic; ComponentLink16Description: https://datasheet.octopart.com:443/ERJ-2RKF3603X-Panasonic-datasheet-41391857.pdf?src-supplier=Electro+Sonic; ComponentLink17URL: https://datasheet.octopart.com:443/ERJ-2RKF3603X-Panasonic-datasheet-38423196.pdf?src-supplier=Future+Electronics; ComponentLink17Description: https://datasheet.octopart.com:443/ERJ-2RKF3603X-Panasonic-datasheet-38423196.pdf?src-supplier=Future+Electronics
footprint Resistor-26.7
pins: 1, 2

## ERJ-2RKF4303X
designator R?, comment 430k
Res Thick Film 0402 430K Ohm 1% 0.1W ±100ppm/°C Molded SMD Punched Carrier T/R; Manufacturer: Panasonic; Manufacturer Part Number: ERJ-2RKF4303X; Manufacturer Lifecycle Status: ACTIVE; Part Series: Precision Thick Film Chip Resistors; Max Power Dissipation: 100mW; Value: 430kΩ; Voltage Rating: 50V; Supplier: DigiKey; Supplier Part Number: P430KLCT-ND; RoHS: Compliant; Category: Chip SMD Resistors; Stock: 81706; Pricing: 1=0.1, 10=0.028, 25=0.0208, 50=0.0168, 100=0.0138, 250=0.01072, 500=0.009, 1000=0.00766, 5000=0.00554 (USD); Case/Package: 0402; Case Code (Imperial): 0402; Case Code (Metric): 1005; China RoHS: Non-Compliant; Composition: Thick Film; Contact Plating: Tin; Depth: 500µm; Features: Automotive AEC-Q200; Height: 350µm; Length: 1mm; Lifecycle Status: Production; Max Operating Temperature: 155°C; Military Standard: Not; Min Operating Temperature: -55°C; Mounting Technology: Surface Mount; Number of Terminals: 2; Number of Terminations: 2; Power Dissipation: 100mW; Power Rating: 100mW; REACH SVHC: Yes; Schedule B: 8533210045, 8533210045|8533210045|8533210045|8533210045|8533210045; Temperature Coefficient: 100ppm/°C; Termination: SMD/SMT; Tolerance: 1%; Voltage Rating (DC): 50V; Width: 500µm; Working Voltage: 50V; ComponentLink1URL: https://datasheet.octopart.com:443/ERJ-2RKF4303X-Panasonic-datasheet-82288794.pdf?src-supplier=Panasonic; ComponentLink1Description: https://datasheet.octopart.com:443/ERJ-2RKF4303X-Panasonic-datasheet-82288794.pdf?src-supplier=Panasonic; ComponentLink2URL: https://datasheet.octopart.com:443/ERJ-2RKF4303X-Panasonic-datasheet-13266541.pdf?src-supplier=RS+(Formerly+Allied+Electronics); ComponentLink2Description: https://datasheet.octopart.com:443/ERJ-2RKF4303X-Panasonic-datasheet-13266541.pdf?src-supplier=RS+(Formerly+Allied+Electronics); ComponentLink3URL: https://datasheet.octopart.com:443/ERJ-2RKF4303X-Panasonic-datasheet-48891056.pdf?src-supplier=Newark; ComponentLink3Description: https://datasheet.octopart.com:443/ERJ-2RKF4303X-Panasonic-datasheet-48891056.pdf?src-supplier=Newark; ComponentLink4URL: https://datasheet.octopart.com:443/ERJ-2RKF4303X-Panasonic-datasheet-136608610.pdf?src-supplier=Newark; ComponentLink4Description: https://datasheet.octopart.com:443/ERJ-2RKF4303X-Panasonic-datasheet-136608610.pdf?src-supplier=Newark; ComponentLink5URL: https://datasheet.octopart.com:443/ERJ-2RKF4303X-Panasonic-datasheet-33006990.pdf?src-supplier=Newark; ComponentLink5Description: https://datasheet.octopart.com:443/ERJ-2RKF4303X-Panasonic-datasheet-33006990.pdf?src-supplier=Newark; ComponentLink6URL: https://datasheet.octopart.com:443/ERJ-2RKF4303X-Panasonic---ECG-datasheet-21211697.pdf?src-supplier=Newark; ComponentLink6Description: https://datasheet.octopart.com:443/ERJ-2RKF4303X-Panasonic---ECG-datasheet-21211697.pdf?src-supplier=Newark; ComponentLink7URL: https://datasheet.octopart.com:443/ERJ-2RKF4303X-Panasonic-datasheet-154766169.pdf?src-supplier=Master+Electronics; ComponentLink7Description: https://datasheet.octopart.com:443/ERJ-2RKF4303X-Panasonic-datasheet-154766169.pdf?src-supplier=Master+Electronics; ComponentLink8URL: https://datasheet.octopart.com:443/ERJ2RKF4303X-Panasonic-datasheet-188592431.pdf?src-supplier=TME; ComponentLink8Description: https://datasheet.octopart.com:443/ERJ2RKF4303X-Panasonic-datasheet-188592431.pdf?src-supplier=TME; ComponentLink9URL: https://datasheet.octopart.com:443/ERJ2RKF4303X-Panasonic-datasheet-164353789.pdf?src-supplier=TME; ComponentLink9Description: https://datasheet.octopart.com:443/ERJ2RKF4303X-Panasonic-datasheet-164353789.pdf?src-supplier=TME; ComponentLink10URL: https://datasheet.octopart.com/ERJ-2RKF4303X-Panasonic-datasheet-78375410.pdf; ComponentLink10Description: https://datasheet.octopart.com/ERJ-2RKF4303X-Panasonic-datasheet-78375410.pdf; ComponentLink11URL: https://datasheet.octopart.com:443/ERJ-2RKF4303X-Panasonic---ECG-datasheet-15994758.pdf?src-supplier=Farnell; ComponentLink11Description: https://datasheet.octopart.com:443/ERJ-2RKF4303X-Panasonic---ECG-datasheet-15994758.pdf?src-supplier=Farnell; ComponentLink12URL: https://datasheet.octopart.com:443/ERJ-2RKF4303X-Panasonic---ECG-datasheet-10025800.pdf?src-supplier=Farnell; ComponentLink12Description: https://datasheet.octopart.com:443/ERJ-2RKF4303X-Panasonic---ECG-datasheet-10025800.pdf?src-supplier=Farnell; ComponentLink13URL: https://datasheet.octopart.com:443/ERJ-2RKF4303X-Panasonic---ECG-datasheet-8853621.pdf?src-supplier=Farnell; ComponentLink13Description: https://datasheet.octopart.com:443/ERJ-2RKF4303X-Panasonic---ECG-datasheet-8853621.pdf?src-supplier=Farnell; ComponentLink14URL: https://datasheet.octopart.com:443/ERJ-2RKF4303X-Panasonic---ECG-datasheet-5313456.pdf?src-supplier=Farnell; ComponentLink14Description: https://datasheet.octopart.com:443/ERJ-2RKF4303X-Panasonic---ECG-datasheet-5313456.pdf?src-supplier=Farnell; ComponentLink15URL: https://datasheet.octopart.com:443/ERJ-2RKF4303X-Panasonic-datasheet-11542829.pdf?src-supplier=Arrow+Electronics; ComponentLink15Description: https://datasheet.octopart.com:443/ERJ-2RKF4303X-Panasonic-datasheet-11542829.pdf?src-supplier=Arrow+Electronics; ComponentLink16URL: https://datasheet.octopart.com:443/ERJ-2RKF4303X-Panasonic-datasheet-41391857.pdf?src-supplier=Electro+Sonic; ComponentLink16Description: https://datasheet.octopart.com:443/ERJ-2RKF4303X-Panasonic-datasheet-41391857.pdf?src-supplier=Electro+Sonic
footprint Resistor-26.7
pins: 1, 2

## GCM1885C1H392JA16D
designator C?, comment 3.9nF/50V
0603 3.9 nF 50 V ±5 % Tolerance C0G SMT Multilayer Ceramic Capacitor; Manufacturer: Murata; Manufacturer Part Number: GCM1885C1H392JA16D; Manufacturer Lifecycle Status: IN PRODUCTION; Value: 3.9nF; Temperature Coefficient: 30ppm/°C; Tolerance: 5%; Voltage Rating: 50V; Supplier: DigiKey; Supplier Part Number: 490-11958-1-ND; RoHS: Compliant; Category: Ceramic Capacitors; Stock: 87384; Pricing: 1=0.1, 10=0.046, 50=0.0314, 100=0.027, 500=0.01964, 1000=0.01737 (USD); Case/Package: 0603; Case Code (Imperial): 0603; Case Code (Metric): 1608; Depth: 800µm; Dielectric: C0G; Dielectric Material: Ceramic; Export Control Classification Number (ECCN) Code: EAR99; Height: 800µm; Harmonized Tariff Schedule (HTS) Code: 8532.24.00.20; Introduction Date: 2010-10-29; Lead Free: Lead Free; Length: 1.6mm; Lifecycle Status: Production; Material: Ceramic; Max Operating Temperature: 125°C; Min Operating Temperature: -55°C; Mounting Technology: Surface Mount; Number of Terminals: 2; Packaging: Tape and Reel; Ratings: AEC-Q200; REACH SVHC: Yes; Schedule B: 8532240020, 8532240020|8532240020, 8532240020|8532240020|8532240020, 8532240020|8532240020|8532240020|8532240020; Termination: SMD/SMT; Voltage Rating (DC): 50V; Weight: 6.293594mg; Width: 800µm; ComponentLink1URL: https://datasheet.octopart.com:443/GCM1885C1H392JA16D-Murata-datasheet-149522577.pdf?src-supplier=Newark; ComponentLink1Description: https://datasheet.octopart.com:443/GCM1885C1H392JA16D-Murata-datasheet-149522577.pdf?src-supplier=Newark; ComponentLink2URL: https://datasheet.octopart.com:443/GCM1885C1H392JA16D-Murata-datasheet-141266224.pdf?src-supplier=Ciiva; ComponentLink2Description: https://datasheet.octopart.com:443/GCM1885C1H392JA16D-Murata-datasheet-141266224.pdf?src-supplier=Ciiva; ComponentLink3URL: https://datasheet.octopart.com:443/GCM1885C1H392JA16D-Murata-datasheet-140657019.pdf?src-supplier=Ciiva; ComponentLink3Description: https://datasheet.octopart.com:443/GCM1885C1H392JA16D-Murata-datasheet-140657019.pdf?src-supplier=Ciiva; ComponentLink4URL: https://datasheet.octopart.com:443/GCM1885C1H392JA16D-Murata-datasheet-138716719.pdf?src-supplier=Ciiva; ComponentLink4Description: https://datasheet.octopart.com:443/GCM1885C1H392JA16D-Murata-datasheet-138716719.pdf?src-supplier=Ciiva; ComponentLink5URL: https://datasheet.octopart.com:443/GCM1885C1H392JA16D-Murata-datasheet-142295892.pdf?src-supplier=Arrow.cn; ComponentLink5Description: https://datasheet.octopart.com:443/GCM1885C1H392JA16D-Murata-datasheet-142295892.pdf?src-supplier=Arrow.cn; ComponentLink6URL: https://datasheet.octopart.com:443/GCM1885C1H392JA16D-Murata-datasheet-12532847.pdf?src-supplier=Future+Electronics; ComponentLink6Description: https://datasheet.octopart.com:443/GCM1885C1H392JA16D-Murata-datasheet-12532847.pdf?src-supplier=Future+Electronics; ComponentLink7URL: https://datasheet.octopart.com:443/GCM1885C1H392JA16D-Murata-datasheet-44781017.pdf?src-supplier=Future+Electronics; ComponentLink7Description: https://datasheet.octopart.com:443/GCM1885C1H392JA16D-Murata-datasheet-44781017.pdf?src-supplier=Future+Electronics; ComponentLink8URL: https://datasheet.octopart.com:443/GCM1885C1H392JA16D-Murata-datasheet-12511495.pdf?src-supplier=TME; ComponentLink8Description: https://datasheet.octopart.com:443/GCM1885C1H392JA16D-Murata-datasheet-12511495.pdf?src-supplier=TME; ComponentLink9URL: http://sigma.octopart.com:80/reach_statement/Murata-company-16.pdf?src-supplier=Compliance+Statements; ComponentLink9Description: http://sigma.octopart.com:80/reach_statement/Murata-company-16.pdf?src-supplier=Compliance+Statements
footprint Capacitor
footprint Capacitor
pins: 1, 2

## GRM31CD80J107MEA8K (2)
designator C?, comment 100uF/6.3V
Ceramic Capacitor, Multilayer, Ceramic, 6.3V, 20% +Tol, 20% -Tol, X6T, 22/-33% TC, 100uF, Surface Mount, 1206; Manufacturer: Murata; Manufacturer Part Number: GRM31CD80J107MEA8K; Manufacturer Lifecycle Status: IN PRODUCTION; Value: 100µF; Supplier: DigiKey; Supplier Part Number: 490-GRM31CD80J107MEA8KCT-ND; RoHS: Compliant; Category: Ceramic Capacitors; Stock: 199359; Pricing: 1=0.45, 10=0.271, 50=0.2014, 100=0.1802, 500=0.14776, 1000=0.13336, 2500=0.1217 (USD); Case/Package: 1206; Dielectric: X6T; Dielectric Material: Ceramic; Height: 1.6mm; Length: 3.2mm; Lifecycle Status: Production; Material: Ceramic; Max Operating Temperature: 105°C; Min Operating Temperature: -55°C; Mounting Technology: Surface Mount; Number of Terminals: 2; REACH SVHC: Yes; Schedule B: 8532240020|8532240020|8532240020|8532240020|8532240020|8532240020|8532240020|8532240020|8532240020|8532240020|8532240020|8532240020|8532240020|8532240020|8532240020|8532240020|8532240020|8532240020|8532240020|8532240020|8532240020|8532240020|8532240020|85; Thickness: 1.6mm; Tolerance: 20%; Voltage Rating: 6.3V; Voltage Rating (DC): 6.3V; Width: 1.6mm; ComponentLink1URL: https://datasheet.octopart.com/GRM31CD80J107MEA8K-Murata-datasheet-12515295.pdf; ComponentLink1Description: https://datasheet.octopart.com/GRM31CD80J107MEA8K-Murata-datasheet-12515295.pdf; ComponentLink2URL: https://datasheet.octopart.com/GRM31CD80J107MEA8K-Murata-datasheet-12510076.pdf; ComponentLink2Description: https://datasheet.octopart.com/GRM31CD80J107MEA8K-Murata-datasheet-12510076.pdf; ComponentLink3URL: https://datasheet.octopart.com/GRM31CD80J107MEA8K-Murata-datasheet-11978611.pdf; ComponentLink3Description: https://datasheet.octopart.com/GRM31CD80J107MEA8K-Murata-datasheet-11978611.pdf; ComponentLink4URL: https://datasheet.octopart.com/GRM31CD80J107MEA8K-Murata-datasheet-10025737.pdf; ComponentLink4Description: https://datasheet.octopart.com/GRM31CD80J107MEA8K-Murata-datasheet-10025737.pdf; ComponentLink5URL: https://datasheet.octopart.com/GRM31CD80J107MEA8K-Murata-datasheet-8819587.pdf; ComponentLink5Description: https://datasheet.octopart.com/GRM31CD80J107MEA8K-Murata-datasheet-8819587.pdf; ComponentLink6URL: http://sigma.octopart.com:80/reach_statement/Murata-company-16.pdf?src-supplier=Compliance+Statements; ComponentLink6Description: http://sigma.octopart.com:80/reach_statement/Murata-company-16.pdf?src-supplier=Compliance+Statements
footprint Capacitor
pins: 1, 2

## GRM155R71C103KA01D
designator C?, comment 10nF/16V
16V 10nF X7R ±10% 0402 Multilayer Ceramic Capacitors MLCC - SMD/SMT ROHS; Manufacturer: Murata; Manufacturer Part Number: GRM155R71C103KA01D; Manufacturer Lifecycle Status: NRND; Supplier: DigiKey; Supplier Part Number: 490-1313-2-ND; RoHS: Compliant; Category: Ceramic Capacitors; Stock: 6720000; Pricing: 10000=0.00545, 20000=0.00494, 30000=0.00468, 50000=0.00439, 70000=0.00423, 100000=0.00407, 120000=0.00399, 240000=0.00374, 250000=0.00372 (USD); Value: 10nF; Case/Package: 0402; Case Code (Imperial): 0402; Case Code (Metric): 1005; Depth: 500µm; Dielectric: X7R; Dielectric Material: Ceramic; Height: 500µm; Lead Free: Lead Free; Length: 1mm; Lifecycle Status: NRND; Material: Ceramic; Max Operating Temperature: 125°C; Min Operating Temperature: -55°C; Mounting Technology: Surface Mount; Pins: 2; Number of Terminals: 2; Packaging: Cut Tape; Radiation Hardening: No; REACH SVHC: Yes; Schedule B: 8532240020, 8532240020|8532240020, 8532240020|8532240020|8532240020, 8532240020|8532240020|8532240020|8532240020; Termination: SMD/SMT; Thickness: 500µm; Tolerance: 10%; Voltage: 16V; Voltage Rating: 16V; Voltage Rating (DC): 16V; Width: 500µm; ComponentLink1URL: https://datasheet.octopart.com:443/GRM155R71C103KA01D-Murata-datasheet-8817987.pdf?src-supplier=element14+APAC; ComponentLink1Description: https://datasheet.octopart.com:443/GRM155R71C103KA01D-Murata-datasheet-8817987.pdf?src-supplier=element14+APAC; ComponentLink2URL: https://datasheet.octopart.com:443/GRM155R71C103KA01D-Murata-datasheet-62317116.pdf?src-supplier=element14+APAC; ComponentLink2Description: https://datasheet.octopart.com:443/GRM155R71C103KA01D-Murata-datasheet-62317116.pdf?src-supplier=element14+APAC; ComponentLink3URL: https://datasheet.octopart.com:443/GRM155R71C103KA01D-Murata-datasheet-12547956.pdf?src-supplier=_legacy+Avnet; ComponentLink3Description: https://datasheet.octopart.com:443/GRM155R71C103KA01D-Murata-datasheet-12547956.pdf?src-supplier=_legacy+Avnet; ComponentLink4URL: https://datasheet.octopart.com:443/GRM155R71C103KA01D-Murata-datasheet-8330587.pdf?src-supplier=_legacy+Avnet; ComponentLink4Description: https://datasheet.octopart.com:443/GRM155R71C103KA01D-Murata-datasheet-8330587.pdf?src-supplier=_legacy+Avnet; ComponentLink5URL: https://datasheet.octopart.com:443/GRM155R71C103KA01D-Murata-datasheet-165579666.pdf?src-supplier=TME; ComponentLink5Description: https://datasheet.octopart.com:443/GRM155R71C103KA01D-Murata-datasheet-165579666.pdf?src-supplier=TME; ComponentLink6URL: https://datasheet.octopart.com:443/GRM155R71C103KA01D-Murata-datasheet-59876780.pdf?src-supplier=TME; ComponentLink6Description: https://datasheet.octopart.com:443/GRM155R71C103KA01D-Murata-datasheet-59876780.pdf?src-supplier=TME; ComponentLink7URL: https://datasheet.octopart.com:443/GRM155R71C103KA01D-Murata-datasheet-141266224.pdf?src-supplier=Ciiva; ComponentLink7Description: https://datasheet.octopart.com:443/GRM155R71C103KA01D-Murata-datasheet-141266224.pdf?src-supplier=Ciiva; ComponentLink8URL: https://datasheet.octopart.com:443/GRM155R71C103KA01D-Murata-datasheet-140690969.pdf?src-supplier=Ciiva; ComponentLink8Description: https://datasheet.octopart.com:443/GRM155R71C103KA01D-Murata-datasheet-140690969.pdf?src-supplier=Ciiva; ComponentLink9URL: https://datasheet.octopart.com:443/GRM155R71C103KA01D-Murata-datasheet-138740887.pdf?src-supplier=Ciiva; ComponentLink9Description: https://datasheet.octopart.com:443/GRM155R71C103KA01D-Murata-datasheet-138740887.pdf?src-supplier=Ciiva; ComponentLink10URL: https://datasheet.octopart.com:443/GRM155R71C103KA01D-Murata-datasheet-22122223.pdf?src-supplier=Future+Electronics; ComponentLink10Description: https://datasheet.octopart.com:443/GRM155R71C103KA01D-Murata-datasheet-22122223.pdf?src-supplier=Future+Electronics; ComponentLink11URL: https://datasheet.octopart.com:443/GRM155R71C103KA01D-Murata-datasheet-14400559.pdf?src-supplier=Future+Electronics; ComponentLink11Description: https://datasheet.octopart.com:443/GRM155R71C103KA01D-Murata-datasheet-14400559.pdf?src-supplier=Future+Electronics; ComponentLink12URL: https://datasheet.octopart.com:443/GRM155R71C103KA01D-Murata-datasheet-44106282.pdf?src-supplier=Future+Electronics; ComponentLink12Description: https://datasheet.octopart.com:443/GRM155R71C103KA01D-Murata-datasheet-44106282.pdf?src-supplier=Future+Electronics; ComponentLink13URL: https://datasheet.octopart.com/GRM155R71C103KA01D-Murata-datasheet-12515295.pdf; ComponentLink13Description: https://datasheet.octopart.com/GRM155R71C103KA01D-Murata-datasheet-12515295.pdf; ComponentLink14URL: https://datasheet.octopart.com/GRM155R71C103KA01D-Murata-datasheet-12510076.pdf; ComponentLink14Description: https://datasheet.octopart.com/GRM155R71C103KA01D-Murata-datasheet-12510076.pdf; ComponentLink15URL: https://datasheet.octopart.com/GRM155R71C103KA01D-Murata-datasheet-11978611.pdf; ComponentLink15Description: https://datasheet.octopart.com/GRM155R71C103KA01D-Murata-datasheet-11978611.pdf; ComponentLink16URL: https://datasheet.octopart.com/GRM155R71C103KA01D-Murata-datasheet-10025737.pdf; ComponentLink16Description: https://datasheet.octopart.com/GRM155R71C103KA01D-Murata-datasheet-10025737.pdf; ComponentLink17URL: https://datasheet.octopart.com/GRM155R71C103KA01D-Murata-datasheet-8819587.pdf; ComponentLink17Description: https://datasheet.octopart.com/GRM155R71C103KA01D-Murata-datasheet-8819587.pdf; ComponentLink18URL: https://datasheet.octopart.com/GRM155R71C103KA01D-Murata-datasheet-14400564.pdf; ComponentLink18Description: https://datasheet.octopart.com/GRM155R71C103KA01D-Murata-datasheet-14400564.pdf; ComponentLink19URL: https://datasheet.octopart.com:443/GRM155R71C103KA01D-Murata-datasheet-148211.pdf?src-supplier=Garrett; ComponentLink19Description: https://datasheet.octopart.com:443/GRM155R71C103KA01D-Murata-datasheet-148211.pdf?src-supplier=Garrett; ComponentLink20URL: https://datasheet.octopart.com:443/GRM155R71C103KA01D-Murata-datasheet-102.pdf?src-supplier=DigiKey; ComponentLink20Description: https://datasheet.octopart.com:443/GRM155R71C103KA01D-Murata-datasheet-102.pdf?src-supplier=DigiKey; ComponentLink21URL: http://sigma.octopart.com:80/reach_statement/Murata-company-16.pdf?src-supplier=Compliance+Statements; ComponentLink21Description: http://sigma.octopart.com:80/reach_statement/Murata-company-16.pdf?src-supplier=Compliance+Statements
footprint Capacitor
pins: 1, 2